# EAGLE library part ST-L3GD20 (library FaBo-Mems)
STMicroelectronics L3GD20
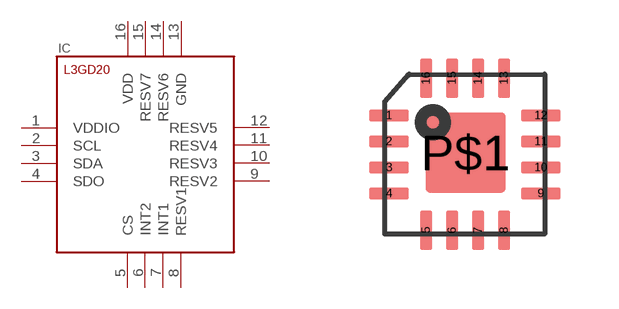
[diagram p7: symbol with the pads of LGA-16; footprint LGA-16]

Designator prefix IC

## ST-L3GD20  [LGA-16]
1  VDDIO
2  SCL
3  SDA
4  SDO
5  CS
6  INT2
7  INT1
8  RESV1
9  RESV2
10  RESV3
11  RESV4
12  RESV5
13  GND
14  RESV6
15  RESV7
16  VDD

## Footprint LGA-16 (pad centres in mm)
smd 1 x 0.3: 1 -1.9,0.97; 2 -1.9,0.32; 3 -1.9,-0.33; 4 -1.9,-0.98; 9 1.9,-0.98; 10 1.9,-0.33; 11 1.9,0.32; 12 1.9,0.97
smd 0.3 x 1: 5 -0.97,-1.9; 6 -0.32,-1.9; 7 0.33,-1.9; 8 0.98,-1.9; 13 0.98,1.9; 14 0.33,1.9; 15 -0.32,1.9; 16 -0.97,1.9
smd 2 x 2: P$1 0.02,0.04